# EAGLE library part EDGE-LIBRARY_PCA85073 (library Local Compute Module)
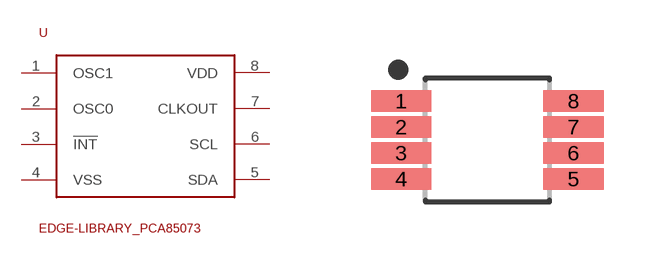
[diagram p14: symbol with the pads of EDGE-LIBRARY_SOP65P490X110-8N; footprint EDGE-LIBRARY_SOP65P490X110-8N]

Designator prefix U

## EDGE-LIBRARY_PCA85073 (DIGIKEY: 568-PCA85073ADP/Q900ZCT-ND; MANUFACTURE: NXP USA Inc; MPN: PCA85073ADP/Q900Z)  [EDGE-LIBRARY_SOP65P490X110-8N]
1  OSC1
2  OSC0
3  !INT
4  VSS
5  SDA
6  SCL
7  CLKOUT
8  VDD

## Footprint EDGE-LIBRARY_SOP65P490X110-8N (pad centres in mm)
8-SOP, 0.65 mm pitch, 4.90 mm span, 3.00 X 3.00 X 1.10 mm body 8-pin SOP package with 0.65 mm pitch, 4.90 mm span with body size 3.00 X 3.00 X 1.10 mm
smd 1.509 x 0.539: 1 -2.153,0.975; 2 -2.153,0.325; 3 -2.153,-0.325; 4 -2.153,-0.975; 5 2.153,-0.975; 6 2.153,-0.325; 7 2.153,0.325; 8 2.153,0.975